# Altium schematic symbol library Fiducial.SchLib: 1 symbol
Pins are listed as number, name and electrical type; pins without a type are passive.

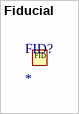
[diagram p0: symbol Fiducial]

## Fiducial
designator FID?  (no BOM)
footprint 1MM FID
text: FID